# Altium footprint library STC15W204S.PcbLib: 2 footprints
Each footprint in its own frame and in the unit in brackets; x right, y up, seen from the top. Pads: shape width x height; smd on the part's side, far side on the other; paste and mask are expansions set on the pad; w line width, h text height; cw(c..) or ccw(c..) is an arc to the next point about the centre after c.
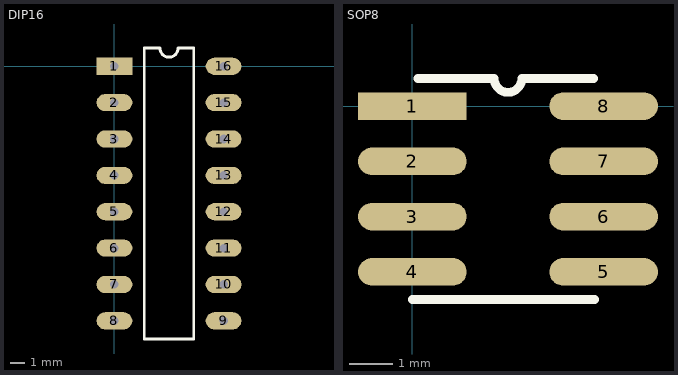
[diagram p0: the footprints below, top view; thin cyan lines are the x and y axes]

## DIP16 [mm]
pads (16):
  rect 2.5x1.2 hole 0.6: 1(0,0)
  oval 2.5x1.2 hole 0.6: 2(0,-2.54) 3(0,-5.08) 4(0,-7.62) 5(0,-10.16) 6(0,-12.7) 7(0,-15.24) 8(0,-17.78) 9(7.62,-17.78) 10(7.62,-15.24) 11(7.62,-12.7) 12(7.62,-10.16) 13(7.62,-7.62) 14(7.62,-5.08) 15(7.62,-2.54) 16(7.62,0)
Top Overlay:
  lines w0.2: 2.085,-19.05 2.085,1.27 3.175,1.27 ccw(c3.81,1.27) 4.445,1.27 5.535,1.27 5.535,-19.05 2.085,-19.05

## SOP8 [mm]
pads (8):
  rect 2.5x0.635 smd: 1(0,0)
  oval 2.5x0.635 smd: 2(0,-1.27) 3(0,-2.54) 4(0,-3.81) 5(4.4,-3.81) 6(4.4,-2.54) 7(4.4,-1.27) 8(4.4,0)
Top Overlay:
  lines w0.2: 0,-4.445 2.315,-4.445 4.191,-4.445 ; 0.127,0.635 1.882,0.635 ccw(c2.2,0.635) 2.517,0.635 4.169,0.635